# Altium footprint library SON95P300X300X100-7N.PcbLib: 1 footprints
Each footprint in its own frame and in the unit in brackets; x right, y up, seen from the top. Pads: shape width x height; smd on the part's side, far side on the other; paste and mask are expansions set on the pad; w line width, h text height; cw(c..) or ccw(c..) is an arc to the next point about the centre after c.
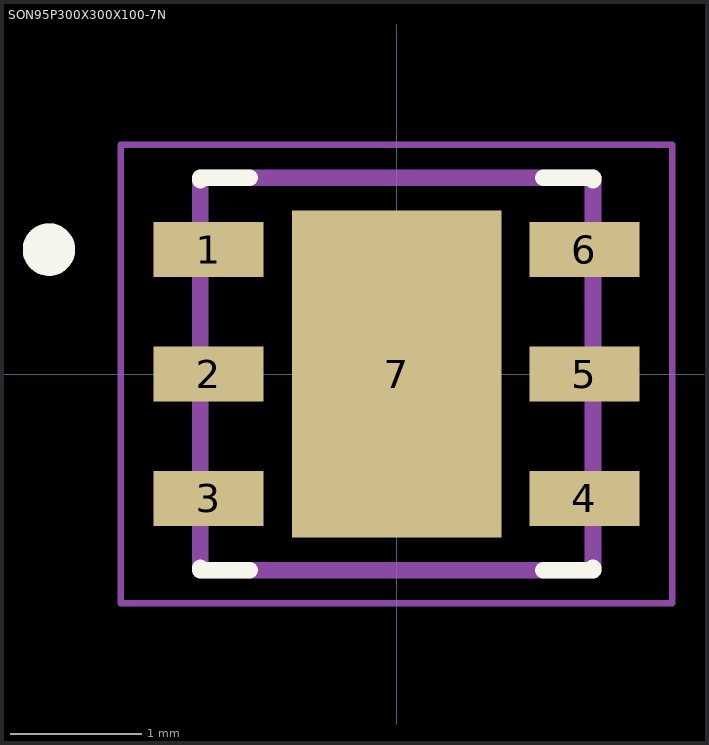
[diagram p0: the footprint, top view; thin cyan lines are the x and y axes]

## SON95P300X300X100-7N [mm]
pads (7):
  rect 0.84x0.42 smd: 1(-1.435,0.95) 2(-1.435,0) 3(-1.435,-0.95) 4(1.435,-0.95) 5(1.435,0) 6(1.435,0.95)
  rect 1.6x2.5 smd paste-2: 7(0,0)
Top Overlay:
  circle w0.2: c-2.655,0.95 r0.1
  lines w0.127: -1.5,-1.48 -1.5,-1.5 -1.12,-1.5 ; -1.5,1.48 -1.5,1.5 -1.12,1.5 ; 1.12,-1.5 1.5,-1.5 1.5,-1.48 ; 1.12,1.5 1.5,1.5 1.5,1.48
Top Paste:
  region: 0.506,-0.791 -0.506,-0.791 -0.506,0.791 0.506,0.791
Mechanical 13:
  circle w0.2: c-2.655,0.95 r0.1
  lines w0.127: -1.5,-1.5 -1.5,1.5 1.5,1.5 1.5,-1.5 -1.5,-1.5
Mechanical 15:
  lines w0.05: -2.105,-1.75 2.105,-1.75 2.105,1.75 -2.105,1.75 -2.105,-1.75
3D body "step_temp.STEP": height 1, standoff 0, extent -1.5,-1.5 1.5,1.5